# Altium schematic symbol library Schlib.SchLib: 47 symbols
Pins are listed as number, name and electrical type; pins without a type are passive.

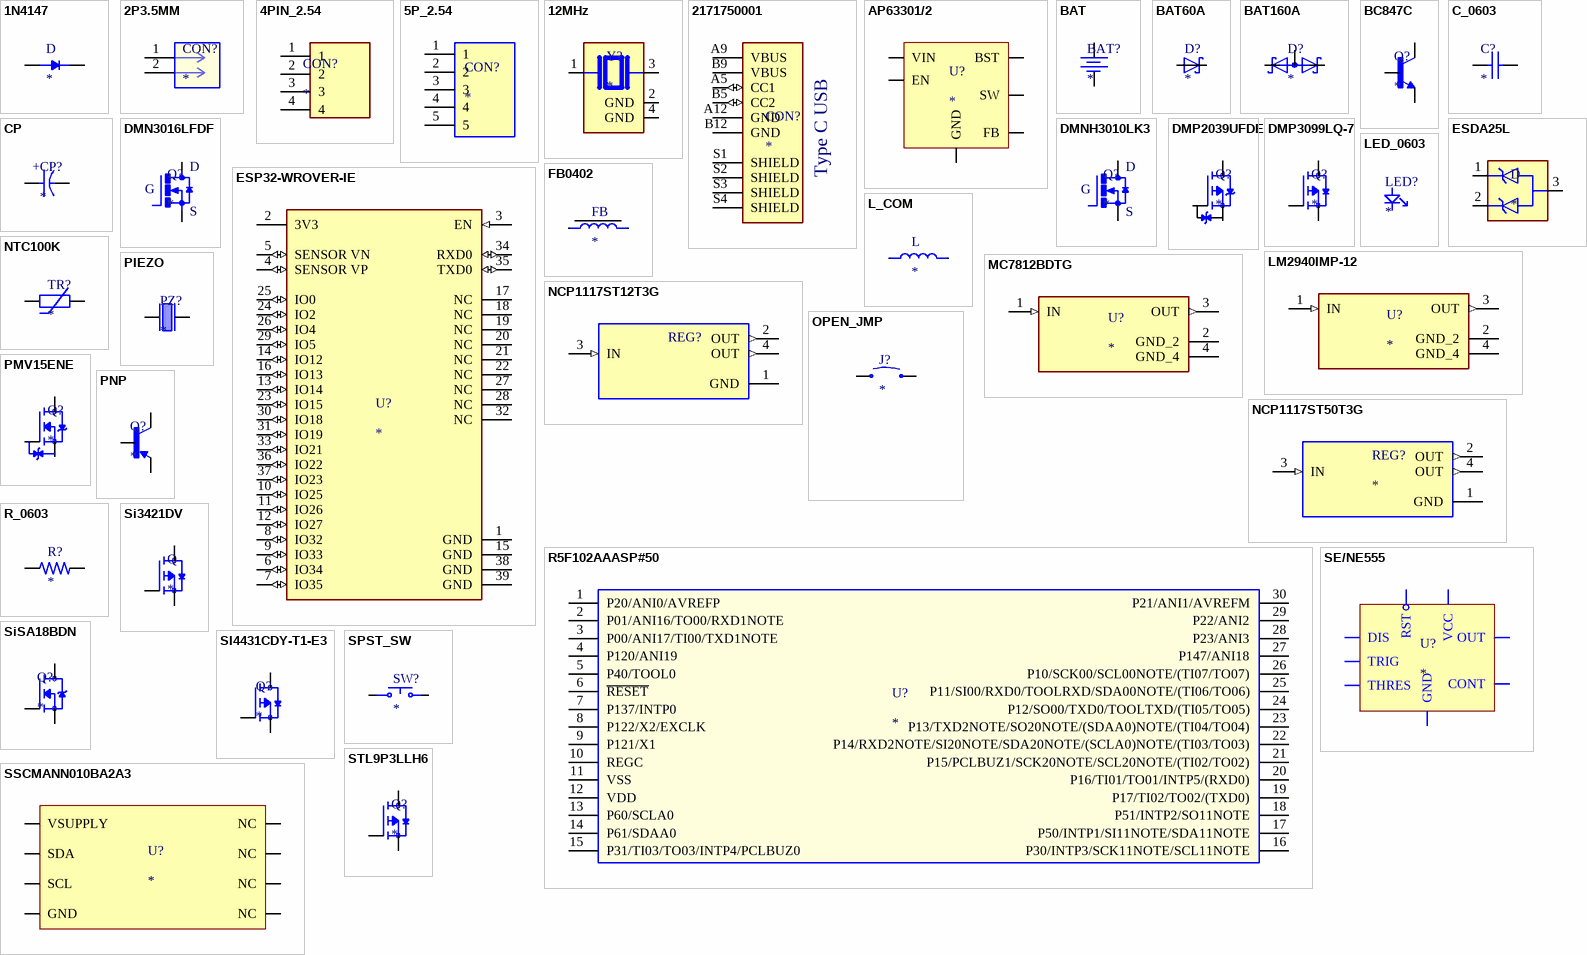
[diagram p0: symbols 1N4147 to STL9P3LLH6]

## 1N4147
designator D
MFR: Panjit; PN: 1N4148W_R2_00001; P: SOD123; D: Diodes - General Purpose, Power, Switching SURFACE MOUNT SWITCHING DIODES; URL: https://www.mouser.in/ProductDetail/Panjit/1N4148W_R2_00001?qs=sPbYRqrBIVlsNrvmMQOkFA%3D%3D
footprint SOD123
pins: A, C K

## 2P3.5MM
designator CON?
MFR: Molex; D: Headers & Wire Housings 2CKT 3.5MM W TO B C KT 3.5MM W TO B CONN; PN: 53258-0229; URL: https://www.mouser.in/ProductDetail/Molex/53258-0229?qs=yYVs2tXBqMMxmAbgTccg5w%3D%3D
footprint 2P_P3.5mm
pins: 1, 2

## 4PIN_2.54
designator CON?
PN: 87224-4
footprint 4Pin_2.5
pins: 1, 2, 3, 4

## 5P_2.54
designator CON?
PN: 87224-5
footprint 5P2.54
pins: 1, 2, 3, 4, 5

## 12MHz
designator Y?
MFR: ABRACON; PN: ABM8G-12.000MHZ-18-D2Y-T; D: Crystals 12.0 MHZ 18PF; P: *; URL: https://www.mouser.in/ProductDetail/ABRACON/ABM8G-12.000MHZ-18-D2Y-T?qs=3LVMET7lfiMArGND0L1Ksw%3D%3D
footprint 12MHz
pins: 1, 2 GND (power), 3 2, 4 GND (power)

## 2171750001
designator CON?
MFR: Molex; D: USB Connectors Top-Mnt SMT 6Ckt Type C Rec.; P: 6 Contact; PN: 217175-0001; URL: https://www.mouser.in/ProductDetail/Molex/217175-0001?qs=DRkmTr78QARWJMiqNnldSg%3D%3D
footprint 217175-0001
pins: A5 CC1 (io), A9 VBUS (power), A12 GND (power), B5 CC2 (io), B9 VBUS (power), B12 GND (power), S1 SHIELD, S2 SHIELD, S3 SHIELD, S4 SHIELD
text: Type C USB

## AP63301/2
designator U?
MFR: Diodes Incorporated; P: TSOT26; PN: AP63301WU-7; D: Switching Voltage Regulators DCDC Conv HV Buck TSOT26 T&R 3K; URL: https://www.mouser.in/ProductDetail/Diodes-Incorporated/AP63301WU-7?qs=bZr6mbWTK5mxozg17S0lNg%3D%3D
footprint SOT-23-6
pins: 1 FB, 2 EN, 3 VIN, 4 GND, 5 SW, 6 BST

## BAT
designator BAT?
pins: 1, 2

## BAT60A
designator D?
P: SOD-323; PN: BAT60AE6327HTSA1; D: Schottky Diodes & Rectifiers 10 V 3000 mA; URL: https://www.mouser.in/ProductDetail/Infineon-Technologies/BAT60AE6327HTSA1?qs=OwbwYO03UsIW3Y2lCXbs8Q%3D%3D
footprint SOD-323
pins: A, C

## BAT160A
designator D?
PN: BAT160A; P: SOT223; D: Schottky Diodes & Rectifiers BAT160A/SOT223/SC-73; URL: https://www.mouser.in/ProductDetail/Nexperia/BAT160A115?qs=me8TqzrmIYViWH0JTpTBEg%3D%3D
footprint SOT-223
pins: 1 K1, 3 K2, 4 A1A2

## BC847C
designator Q?
MFR: Nexperia; D: Bipolar Transistors - BJT BC847C/SOT23/TO-236AB; PN: BC847C,215; P: SOT-23-3; URL: https://www.mouser.in/ProductDetail/Nexperia/BC847C215?qs=me8TqzrmIYVnv3C18%2Fxa3Q%3D%3D
footprint SOT-23-3
pins: 1 B, 2 E, 3 C

## C_0603
designator C?
D: *; MFR: *; P: *; PN: *; URL: *
footprint C_0603
pins: 1, 2

## CP
designator CP?
pins: 1, 2
text: +

## DMN3016LFDF
designator Q?
MFR: Diodes Incorporated; D: MOSFET MOSFET BVDSS: 25V 30V U-DFN2020-6 T&R 3K; P: DFN-2020-6; PN: DMN3016LFDF-7; URL: https://www.mouser.in/ProductDetail/Diodes-Incorporated/DMN3016LFDF-7?qs=lQAVKuKFhkIFikyvGcXhiA%3D%3D
footprint U-DFN2020-6-TYPE F
pins: 1 D, 2 D, 3 G, 4 S, 5 S, 6 D, 7 D, 8 D

## DMNH3010LK3
designator Q?
MFR: Diodes Incorporated; D: MOSFET 175c N-Ch Enh FET 30V 9.5mOhm 10V 55A; PN: DMNH3010LK3-13; P: TO-252-3; URL: https://www.mouser.in/ProductDetail/Diodes-Incorporated/DMNH3010LK3-13?qs=9DwIlvx97aeMHTbhT6GDFw%3D%3D
footprint TO252
pins: 1 G, 2 D, 3 S

## DMP2039UFDE
designator Q?
MFR: Diodes Incorporated; D: P CH MOSFET MOSFET BVDSS: 25V-30 X2-DFN2020-6 T&R 3K; P: U-DFN2020-6; PN: DMP2039UFDE4-7; URL: https://www.mouser.in/ProductDetail/Diodes-Incorporated/DMP2039UFDE4-7?qs=5vZCdhuZeNOC8LTx3UEA1Q%3D%3D
footprint U-DFN2020-6 TYPE-E
pins: 1 D, 2 G, 3 S

## DMP3099LQ-7
designator Q?
MFR: Diodes Incorporated; PN: DMP3099LQ-7; P: SOT-23-3; D: P CHANNEL MOSFET MOSFET BVDSS: 25V-30V; URL: https://www.mouser.in/ProductDetail/Diodes-Incorporated/DMP3099LQ-7?qs=wUXugUrL1qx7nQJj6cIMiA%3D%3D
footprint SOT-23-3
pins: 1 G, 2 S, 3 D

## ESDA25L
designator D
MFR: STMicroelectronics; D: ESD Suppressors / TVS Diodes SUPPRESSOR; P: SOT23-3L; PN: ESDA25L; URL: https://www.mouser.in/ProductDetail/STMicroelectronics/ESDA25L?qs=%252BFmDY%2FmH7IYTgvQLXlr24g%3D%3D
footprint SOT-23-3
pins: 1 C1, 2 C2, 3 CA

## ESP32-WROVER-IE
designator U?
MFR: Espressif Systems; D: Multiprotocol Modules SMD Module ESP32-WROVER-IE, ESP32-D0WD-V3, 3.3V 64Mbit PSRAM, 16 MB SPI flash, IPEX connector; PN: ESP32-WROVER-IE-N16R8; P: *; URL: https://www.mouser.in/ProductDetail/Espressif-Systems/ESP32-WROVER-IE-N16R8?qs=sGAEpiMZZMu3sxpa5v1qrkR%2F6t0IkXq8TEHvlzz2yS8%3D
footprint ESP32-WROVER-IE
pins: 1 GND (power), 2 3V3 (power), 3 EN (in), 4 SENSOR VP (io), 5 SENSOR VN (io), 6 IO34 (io), 7 IO35 (io), 8 IO32 (io), 9 IO33 (io), 10 IO25 (io), 11 IO26 (io), 12 IO27 (io), 13 IO14 (io), 14 IO12 (io), 15 GND (power), 16 IO13 (io), 17 NC, 18 NC, 19 NC, 20 NC, 21 NC, 22 NC, 23 IO15 (io), 24 IO2 (io), 25 IO0 (io), 26 IO4 (io), 27 NC, 28 NC, 29 IO5 (io), 30 IO18 (io), 31 IO19 (io), 32 NC, 33 IO21 (io), 34 RXD0 (io), 35 TXD0 (io), 36 IO22 (io), 37 IO23 (io), 38 GND (power), 39 GND (power)

## FB0402
designator FB
MFR: Murata Electronics; P: 0402; PN: BLM15HG601SN1D; D: Ferrite Beads 600 OHM 25%; URL: https://www.mouser.in/ProductDetail/Murata-Electronics/BLM15HG601SN1D?qs=0VEDk56ETTplQiBGmxjbtg%3D%3D
footprint FB0402
pins: 1, 2

## L_COM
designator L
pins: 1, 2

## LED_0603
designator LED?
MFR: Wurth Elektronik; PN: 150060RS75000; D: Standard LEDs - SMD WL-SMCW SMDMono TpVw Waterclr 0603 Red; P: 0603; YRL: https://www.mouser.in/ProductDetail/Wurth-Elektronik/150060RS75000?qs=LlUlMxKIyB3QnmZ3fw%2FVCA%3D%3D
footprint LED_0603
pins: A, K

## LM2940IMP-12
designator U?
MFR: TI; D: LDO Voltage Regulators 1A LDO 12V REG; P: SOT-223-4; PN: LM2940IMP-12/NOPB; URL: https://www.mouser.in/ProductDetail/Texas-Instruments/LM2940IMP-12-NOPB?qs=X1J7HmVL2ZH8vPKbqlA%2FjA%3D%3D
footprint SOT223-4
pins: 1 IN (in), 2 GND_2 (power), 3 OUT (out), 4 GND_4 (power)

## MC7812BDTG
designator U?
MFR: onsemi; D: Linear Voltage Regulators 12V 1A Positive; PN: MC7812BDTG; P: DPAK-3; URL: https://www.mouser.in/ProductDetail/onsemi/MC7812BDTG?qs=sGAEpiMZZMt1hubY80%2Fs8G3BvVTMfLyEQLzk7ZlDT4k%3D
footprint DPAK-3
pins: 1 IN (in), 2 GND_2 (power), 3 OUT (out), 4 GND_4 (power)

## NCP1117ST12T3G
designator REG?
MFR: onsemi; PN: NCP1117ST50T3G; P: SOT-223; D: LDO Voltage Regulators 12.0V 1A Positive; URL: https://www.mouser.in/ProductDetail/onsemi/NCP1117ST12T3G?qs=Gev%252BmEvV0iYlVubarTuj5w%3D%3D
footprint SOT-223
footprint SOT-223
pins: 1 GND (power), 2 OUT (out), 3 IN (in), 4 OUT (out)

## NCP1117ST50T3G
designator REG?
MFR: onsemi; PN: NCP1117ST50T3G; P: SOT-223-3; D: LDO Voltage Regulators 5.0V 1A Positive; URL: https://www.mouser.in/ProductDetail/onsemi/NCP1117ST50T3G?qs=Gev%252BmEvV0ib6dijy6U0dhQ%3D%3D
footprint SOT-223
pins: 1 GND (power), 2 OUT (out), 3 IN (in), 4 OUT (out)

## NTC100K
designator TR?
MFR: Bussmann / Eaton; PN: NRBG105J4200B1J; D: NTC (Negative Temperature Coefficient) Thermistors Single ended, Glass NTC, 100K ohm, 4200 B; P: 2.54mm; URL: https://www.mouser.in/ProductDetail/Bussmann-Eaton/NRBG105J4200B1J?qs=doiCPypUmgEX7C7T9ljJrw%3D%3D
pins: 1, 2

## OPEN_JMP
designator J?
footprint OPEN_JMP
pins: 1, 2

## PIEZO
designator PZ?
pins: 1, 2

## PMV15ENE
designator Q?
MFR: Nexperia; P: SOT-23-3; PN: PMV15ENER; D: MOSFET PMV15ENE/SOT23/TO-236AB; URL: https://www.mouser.in/ProductDetail/Nexperia/PMV15ENER?qs=Li%252BoUPsLEntpTHKsialBmQ%3D%3D
footprint SOT23FR
pins: 1 D, 2 G, 3 S

## PNP
designator Q?
pins: 1 B, 2 E, 3 C

## R5F102AAASP#50
designator U?
MFR: Renesas Electronics; PN: R5F102AAASP#50; P: LSSOP-30; D: 16-bit Microcontrollers - MCU 16BIT MCU RL78/G12 16K 30LSSOP -40/+85C; URL: https://www.mouser.in/ProductDetail/Renesas-Electronics/R5F102AAASP50?qs=EBDBlbfErPyLiV42bLqAfw%3D%3D
footprint LSSOP-30
pins: 1 P20/ANI0/AVREFP, 2 P01/ANI16/TO00/RXD1NOTE, 3 P00/ANI17/TI00/TXD1NOTE, 4 P120/ANI19, 5 P40/TOOL0, 6 ~{RESET}, 7 P137/INTP0, 8 P122/X2/EXCLK, 9 P121/X1, 10 REGC, 11 VSS, 12 VDD, 13 P60/SCLA0, 14 P61/SDAA0, 15 P31/TI03/TO03/INTP4/PCLBUZ0, 16 P30/INTP3/SCK11NOTE/SCL11NOTE, 17 P50/INTP1/SI11NOTE/SDA11NOTE, 18 P51/INTP2/SO11NOTE, 19 P17/TI02/TO02/(TXD0), 20 P16/TI01/TO01/INTP5/(RXD0), 21 P15/PCLBUZ1/SCK20NOTE/SCL20NOTE/(TI02/TO02), 22 P14/RXD2NOTE/SI20NOTE/SDA20NOTE/(SCLA0)NOTE/(TI03/TO03), 23 P13/TXD2NOTE/SO20NOTE/(SDAA0)NOTE/(TI04/TO04), 24 P12/SO00/TXD0/TOOLTXD/(TI05/TO05), 25 P11/SI00/RXD0/TOOLRXD/SDA00NOTE/(TI06/TO06), 26 P10/SCK00/SCL00NOTE/(TI07/TO07), 27 P147/ANI18, 28 P23/ANI3, 29 P22/ANI2, 30 P21/ANI1/AVREFM

## R_0603
designator R?
D: *; MFR: *; P: *; PN: *; URL: *
footprint R_0603
pins: 1, 2

## SE/NE555
designator U?
MFR: Diodes Incorporated; D: Timers & Support Products Automotive Grade Precision Timer; PN: SE555QS-13; P: SOIC-8; URL: https://www.mouser.in/ProductDetail/Diodes-Incorporated/SE555QS-13?qs=MHUP4w%2FlnDyIUxZVHd9p8w%3D%3D
footprint SOIC-8
pins: 1 GND (power), 2 TRIG, 3 OUT, 4 RST, 5 CONT, 6 THRES, 7 DIS, 8 VCC (power)

## Si3421DV
designator Q
MFR: Vishay Siliconix; D: P-Channel 30 V (D-S) MOSFET; PN: SI3421DV-T1-GE3; P: TSOP-6; URL: https://www.mouser.in/ProductDetail/Vishay-Semiconductors/SI3421DV-T1-GE3?qs=dpt6vIvaxwjvmZPXyyVpRg%3D%3D
footprint TSOP-6
pins: 1 D, 2 D, 3 G, 4 S, 5 D, 6 D

## SI4431CDY-T1-E3
designator Q?
MFR: Vishay / Siliconix; D: MOSFET -30V Vds 20V Vgs SO-8; P: SOIC-8; PN: SI4431CDY-T1-E3; URL: https://www.mouser.in/ProductDetail/Vishay-Siliconix/SI4431CDY-T1-E3?qs=45wPT2wjtGlWxzlExd9KaA%3D%3D
footprint SOIC-8
pins: 1 S, 2 S, 3 S, 4 G, 5 D, 6 D, 7 D, 8 D

## SiSA18BDN
designator Q?
MFR: Vishay Semiconductors; PN: SISA18BDN-T1-GE3; P: PowerPAK 1212-8PT; D: MOSFET P-CHANNEL 30 V MOSFET PWRPAK; URL: https://www.mouser.in/ProductDetail/Vishay-Semiconductors/SISA18BDN-T1-GE3?qs=t7xnP681wgWcDdTt47xmzQ%3D%3D
footprint PowerPAK® 1212-8
pins: 1 S, 2 S, 3 S, 4 G, 5 D, 6 D, 7 D, 8 D, 9 D

## SPST_SW
designator SW?
MFR: C&K; D: Tactile Switches Tact 50mA 12VDC, 6.0x3.5, 4.3mm H, 180gf, J leads, No ground pin, Black Actuator; PN: PTS636 SM43J SMTR LFS; P: *; URL: https://www.mouser.in/ProductDetail/CK/PTS636-SM43J-SMTR-LFS?qs=vLWxofP3U2wboJ6ciMafNg%3D%3D
footprint PTS636 SM43J SMTR LFS
pins: 1 COM, 2 NO

## SSCMANN010BA2A3
designator U?
MFR: HONEYWELL; PN: SSCMANN010BA2A3; D: Board Mount Pressure Sensors; URL: https://www.mouser.in/ProductDetail/Honeywell/SSCMANN010BA2A3?qs=V2VaM7qhK8cLhmuNijeOKA%3D%3D
footprint SSCMANN010BA2A3 (HONEYWLL)
pins: 1 GND, 2 VSUPPLY, 3 SDA, 4 SCL, 5 NC, 6 NC, 7 NC, 8 NC

## STL9P3LLH6
designator Q?
MFR: STMicroelectronics; D: MOSFET P-channel -30 V, 12 mOhm typ -9 A STripFET H6 Power MOSFET; P: POWERVDFN-8; PN: STL9P3LLH6; URL: https://www.mouser.in/ProductDetail/STMicroelectronics/STL9P3LLH6?qs=mKNKSX85ZJeHtH1e81LEbQ%3D%3D
footprint POWERVDFN-8
pins: 1 S, 2 S, 3 S, 4 G, 5 D, 5_1 D, 5_2 D

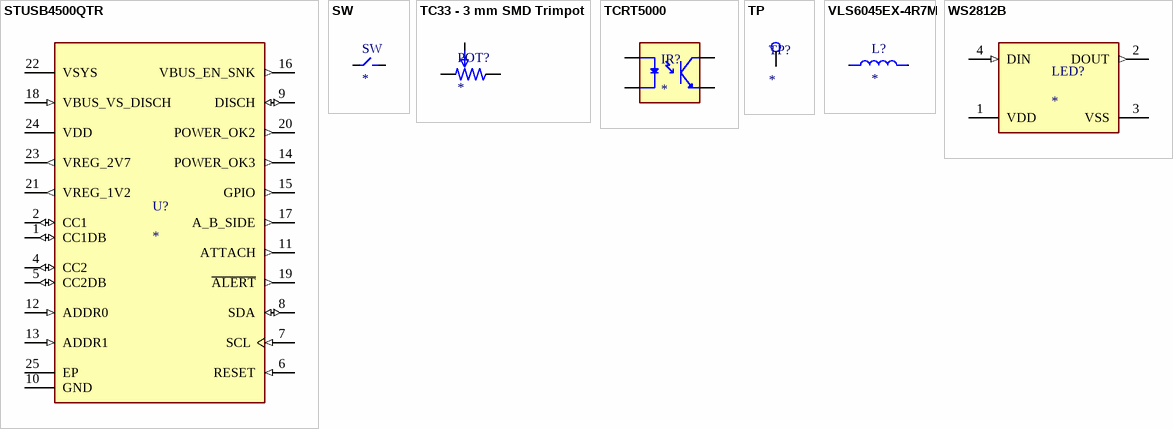
[diagram p1: symbols STUSB4500QTR to WS2812B]

## STUSB4500QTR
designator U?
MFR: STMicroelectronics; D: USB Interface IC Standalone USB PD controller for power sinking devices; P: QFN-24; PN: STUSB4500QTR; URL: https://www.mouser.in/ProductDetail/STMicroelectronics/STUSB4500QTR?qs=wUXugUrL1qyQbYMSzG1ujg%3D%3D&gclid=CjwKCAiA7IGcBhA8EiwAFfUDsZkZhe45H6sb259SlrXLDhHuC3iFilUbHdwuboXJa3yG6M-NUEA8VhoC06YQAvD_BwE
footprint VFQFN-24
pins: 1 CC1DB (io), 2 CC1 (io), 4 CC2 (io), 5 CC2DB (io), 6 RESET (in), 7 SCL (in), 8 SDA (io), 9 DISCH (io), 10 GND (power), 11 ATTACH (out), 12 ADDR0 (in), 13 ADDR1 (in), 14 POWER_OK3 (out), 15 GPIO (out), 16 VBUS_EN_SNK (out), 17 A_B_SIDE (out), 18 VBUS_VS_DISCH (in), 19 ~{ALERT} (out), 20 POWER_OK2 (out), 21 VREG_1V2 (out), 22 VSYS (power), 23 VREG_2V7 (out), 24 VDD (power), 25 EP (power)

## SW
designator SW
pins: 1, 2

## TC33 - 3 mm SMD Trimpot
designator POT?
MFR: Bourns; D: Trimmer Resistors - SMD 3MM 5KOHMS 25% 0.1WATT OPEN FRM; P: SMD; PN: TC33X-2-502E; URL: https://www.mouser.in/ProductDetail/Bourns/TC33X-2-502E?qs=r%252B5EJQndA0pTgyiJsDuA%252BA%3D%3D
footprint TC33 - 3 mm SMD Trimpot
pins: 1 CCW, 2 W, 3 CW

## TCRT5000
designator IR?
MFR: Vishay Semiconductors; D: Optical Switches, Reflective, Phototransistor; PN: TCRT5000L; P: *; URL: https://www.mouser.in/ProductDetail/Vishay-Semiconductors/TCRT5000L?qs=%2Fjqivxn91cdBAizhsWilRQ%3D%3D
footprint TCRT5000
pins: A, CATH, COLL, E

## TP
designator TP?
footprint TP
pins: 1

## VLS6045EX-4R7M
designator L?
MFR: TDK; D: Power Inductors - SMD 4.7 UH; PN: VLS6045EX-4R7M; P: *; URL: https://www.mouser.in/ProductDetail/TDK/VLS6045EX-4R7M?qs=GtmDRopnxzp2p1TJ0mf3tQ%3D%3D
pins: 1, 2

## WS2812B
designator LED?
footprint WS2812B
pins: 1 VDD (power), 2 DOUT (out), 3 VSS (power), 4 DIN (in)